# Altium integrated library PowerIC.IntLib: 18 symbols
Pins are listed as number, name and electrical type; pins without a type are passive.

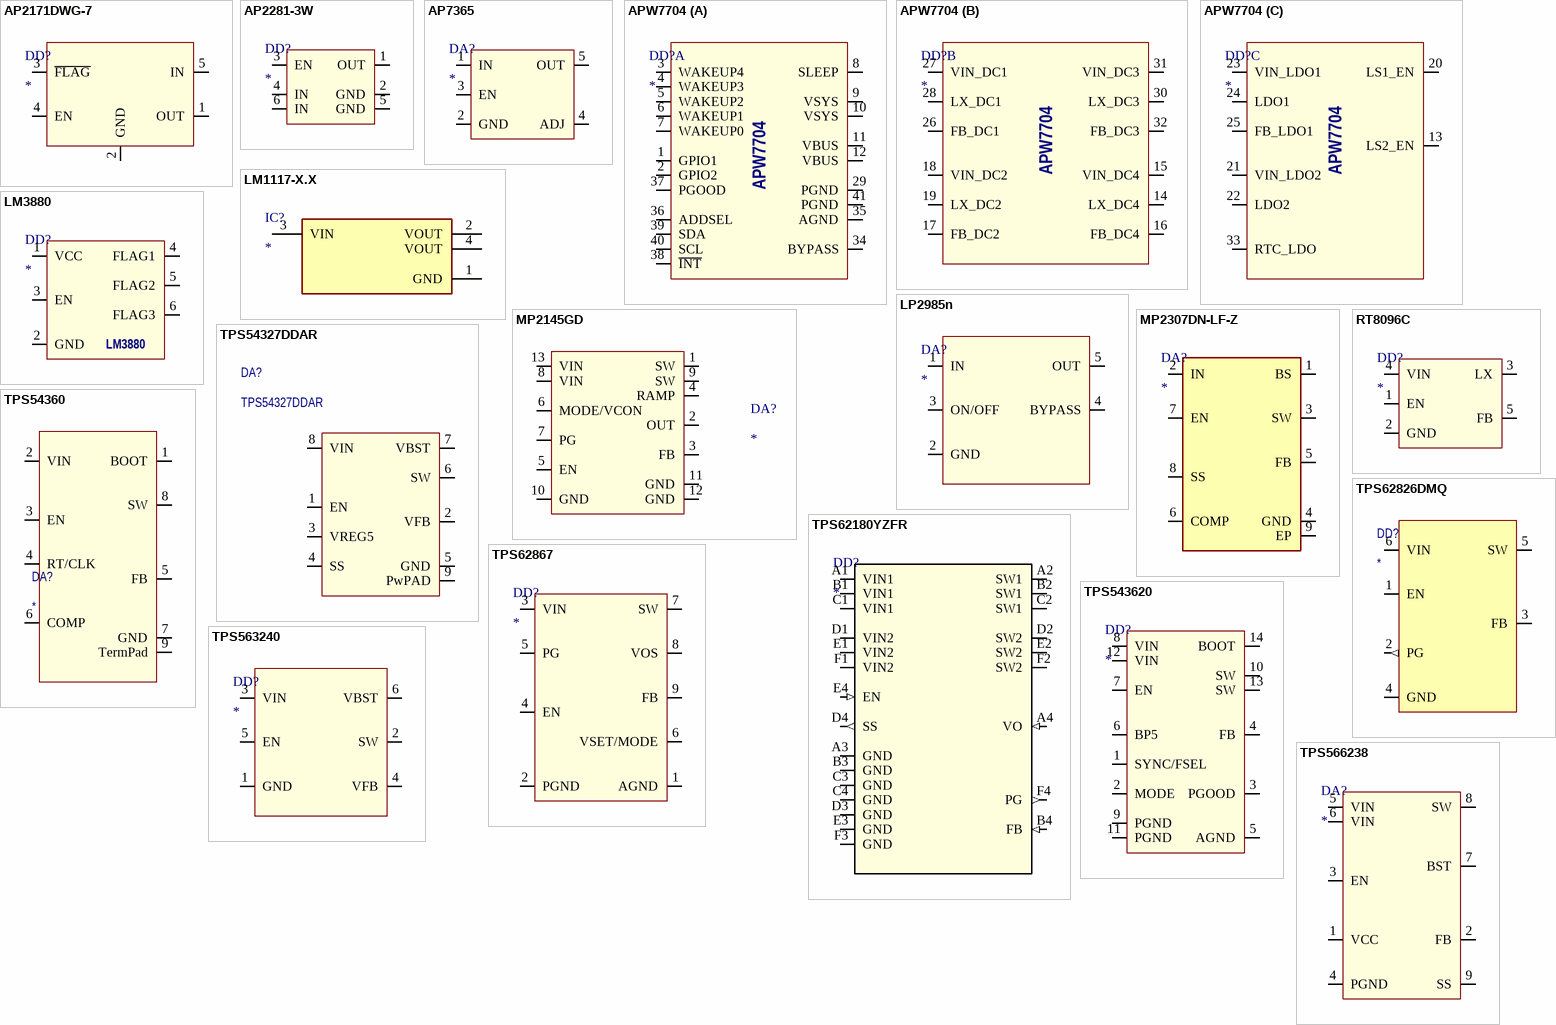
[diagram p0: symbols AP2171DWG-7 to TPS566238]

## AP2171DWG-7
designator DD?
Current limited Power switch
footprint SOT95P285X130-5N (SOT23, 5-Leads, Body 2,95x2,85mm, Pitch 0,95mm, IPC Medium Density)
pins: 1 OUT, 2 GND, 3 ~{FLAG}, 4 EN, 5 IN

## AP2281-3W
designator DD?
LOAD SWITCH
footprint SOT26-6N (SOT23, 6-Leads, Body 3,00x2,85mm, Pitch 0,95mm, IPC Medium Density)
pins: 1 OUT, 2 GND, 3 EN, 4 IN, 5 GND, 6 IN

## AP7365
designator DA?
Model: *; Manufacturer: *; HelpURL: *; Package: *; Value: *
footprint SOT25-5N (SOT23, 5-Leads, Body 3,00x2,85mm, Pitch 0,95mm, IPC Medium Density)
pins: 1 IN, 2 GND, 3 EN, 4 ADJ, 5 OUT

## APW7704
designator DD?
Power Management IC
footprint QFN40P500X500X75_HS-41N (QFN, 40-Leads, Body 5,00x5,00mm, Pitch 0,40mm, Thermal Pad 3,80x3,80mm, IPC Medium Density)
part A pins: 1 GPIO1, 2 GPIO2, 3 WAKEUP4, 4 WAKEUP3, 5 WAKEUP2, 6 WAKEUP1, 7 WAKEUP0, 8 SLEEP, 9 VSYS, 10 VSYS, 11 VBUS, 12 VBUS, 29 PGND, 34 BYPASS, 35 AGND, 36 ADDSEL, 37 PGOOD, 38 ~{INT}, 39 SDA, 40 SCL, 41 PGND
part B pins: 14 LX_DC4, 15 VIN_DC4, 16 FB_DC4, 17 FB_DC2, 18 VIN_DC2, 19 LX_DC2, 26 FB_DC1, 27 VIN_DC1, 28 LX_DC1, 30 LX_DC3, 31 VIN_DC3, 32 FB_DC3
part C pins: 13 LS2_EN, 20 LS1_EN, 21 VIN_LDO2, 22 LDO2, 23 VIN_LDO1, 24 LDO1, 25 FB_LDO1, 33 RTC_LDO

## LM1117-X.X
designator IC?
Active stab
footprint VREG_LM1117MPX-3.3
pins: 1 GND (power), 2 VOUT, 3 VIN, 4 VOUT

## LM3880
designator DD?
3Rail simple power supply seqencer
footprint SOT95P280X145-6N (SOT23, 6-Leads, Body 2,90x2,80mm, Pitch 0,95mm, IPC Medium Density)
pins: 1 VCC, 2 GND, 3 EN, 4 FLAG1, 5 FLAG2, 6 FLAG3

## LP2985n
designator DA?
Model: *; Manufacturer: *; HelpURL: *; Value: *
footprint SOT95P285X130-5N (SOT23, 5-Leads, Body 2,95x2,85mm, Pitch 0,95mm, IPC Medium Density)
pins: 1 IN, 2 GND, 3 ON/OFF, 4 BYPASS, 5 OUT

## MP2145GD
designator DA?
Synchronous StepDown Switcher; Model: *; Manufacturer: *; HelpURL: *; Package: *; Value: *
pins: 1 SW, 2 OUT, 3 FB, 4 RAMP, 5 EN, 6 MODE/VCON, 7 PG, 8 VIN, 9 SW, 10 GND, 11 GND, 12 GND, 13 VIN

## MP2307DN-LF-Z
designator DA?
Integrated Circuit; Manufacturer_Name: Monolithic Power Systems (MPS); Manufacturer_Part_Number: MP2307DN-LF-Z; Datasheet Link: http://www.mouser.com/ds/2/277/MP2307_r1.9-371737.pdf; Height: 1.7mm; Mouser Part Number: 946-MP2307DNLFZ; Mouser Price/Stock: https://www.mouser.co.uk/ProductDetail/Monolithic-Power-Systems-MPS/MP2307DN-LF-Z?qs=rC7bBWoQAAmsFilkwcof5g%3D%3D
footprint SOIC127P600X170-9N
pins: 1 BS, 2 IN, 3 SW, 4 GND, 5 FB, 6 COMP, 7 EN, 8 SS, 9 EP

## RT8096C
designator DD?
1A 6V 1.5MHz Step-Down Convberter; Manufacturer: RICHTEK; Model: RT8096CHGJ5; HelpURL: *; Package: *; Value: *
footprint SOT25-5N (SOT23, 5-Leads, Body 3,00x2,85mm, Pitch 0,95mm, IPC Medium Density)
pins: 1 EN, 2 GND, 3 LX, 4 VIN, 5 FB

## TPS54327DDAR
designator DA?
700kHz 3-A Output Single Synchronous Step-Down Switcher With Integrated FET
footprint SOIC127P600X170_HS-9N (SOIC, 8-Leads, Body 4,90x3,90mm, Pitch 1,27mm, Thermal Pad 3,10x2,40mm, IPC Medium Density)
pins: 1 EN, 2 VFB, 3 VREG5, 4 SS, 5 GND, 6 SW, 7 VBST, 8 VIN, 9 PwPAD

## TPS54360
designator DA?
TPS54360 60-V Input, 3.5-A, Step-Down DC/DC Converter With Eco-Mode™; Model: *; Manufacturer: *; HelpURL: *; Parameter 4: *; Parameter 5: *
footprint SOIC127P600X170_HS-9N (SOIC, 8-Leads, Body 4,90x3,90mm, Pitch 1,27mm, Thermal Pad 3,10x2,40mm, IPC Medium Density)
pins: 1 BOOT, 2 VIN, 3 EN, 4 RT/CLK, 5 FB, 6 COMP, 7 GND, 8 SW, 9 TermPad

## TPS62180YZFR
designator DD?
4-V to 15-V, 6-A, 2-Phase Step-Down Converters with AEE™; PartNumber: TPS62180YZF; Manufacturer: Texas Instruments; CompType: IC; PIN_COUNT: 24; PackageReference: YZF0024AMAM; MountType: SMT; RoHS: Y; RefDes: RefDes; Type: DEV; Value: Value; Copyright: Copyright (C) 2021 Accelerated Designs. All rights reserved
footprint YZF0024AMAM
pins: A1 VIN1 (power), A2 SW1 (power), A3 GND (power), A4 VO (in), B1 VIN1 (power), B2 SW1 (power), B3 GND (power), B4 FB (in), C1 VIN1 (power), C2 SW1 (power), C3 GND (power), C4 GND (power), D1 VIN2 (power), D2 SW2 (power), D3 GND (power), D4 SS (out), E1 VIN2 (power), E2 SW2 (power), E3 GND (power), E4 EN (in), F1 VIN2 (power), F2 SW2 (power), F3 GND (power), F4 PG (out)

## TPS62826DMQ
designator DD?
2.4-V to 5.5-V Input, 3A Step-down Converter with 1% Output Accuracy in 1.5-mm × 1.5-mm QFN Package
footprint DMQ0006A
pins: 1 EN , 2 PG (out), 3 FB, 4 GND  (power), 5 SW (power), 6 VIN (power)

## TPS62867
designator DD?
Manufacturer: TI; Model: TPS62867RQYR; HelpURL: *; Package: *; Value: *
footprint RQY0009A (VQFN-HR)
pins: 1 AGND, 2 PGND, 3 VIN, 4 EN, 5 PG, 6 VSET/MODE, 7 SW, 8 VOS, 9 FB

## TPS543620
designator DD?
Model: *; Manufacturer: *; HelpURL: *; Package: *; Value: *
footprint RPY0014A-MFG
pins: 1 SYNC/FSEL, 2 MODE, 3 PGOOD, 4 FB, 5 AGND, 6 BP5, 7 EN, 8 VIN, 9 PGND, 10 SW, 11 PGND, 12 VIN, 13 SW, 14 BOOT

## TPS563240
designator DD?
17V 3A 1.4 MHz Step-Down VoltageRegulator; Model: TPS563240DDCR; Manufacturer: *; HelpURL: *; Package: *; Value: *
footprint SOT23-6N (SOT23, 6-Leads, Body 2,90x2,80mm, Pitch 0,95mm, IPC Medium Density)
pins: 1 GND, 2 SW, 3 VIN, 4 VFB, 5 EN, 6 VBST

## TPS566238
designator DA?
Synchronous StepDown Voltage regulator Vin 3/18V, Vout 0.6/7V 6A; Model: *; Manufacturer: *; HelpURL: *; Package: *; Value: *
footprint VQFN-HR (Plastic quad flatpack)
pins: 1 VCC, 2 FB, 3 EN, 4 PGND, 5 VIN, 6 VIN, 7 BST, 8 SW, 9 SS